# Altium integrated library RHS2000.IntLib: 7 symbols
Pins are listed as number, name and electrical type; pins without a type are passive.

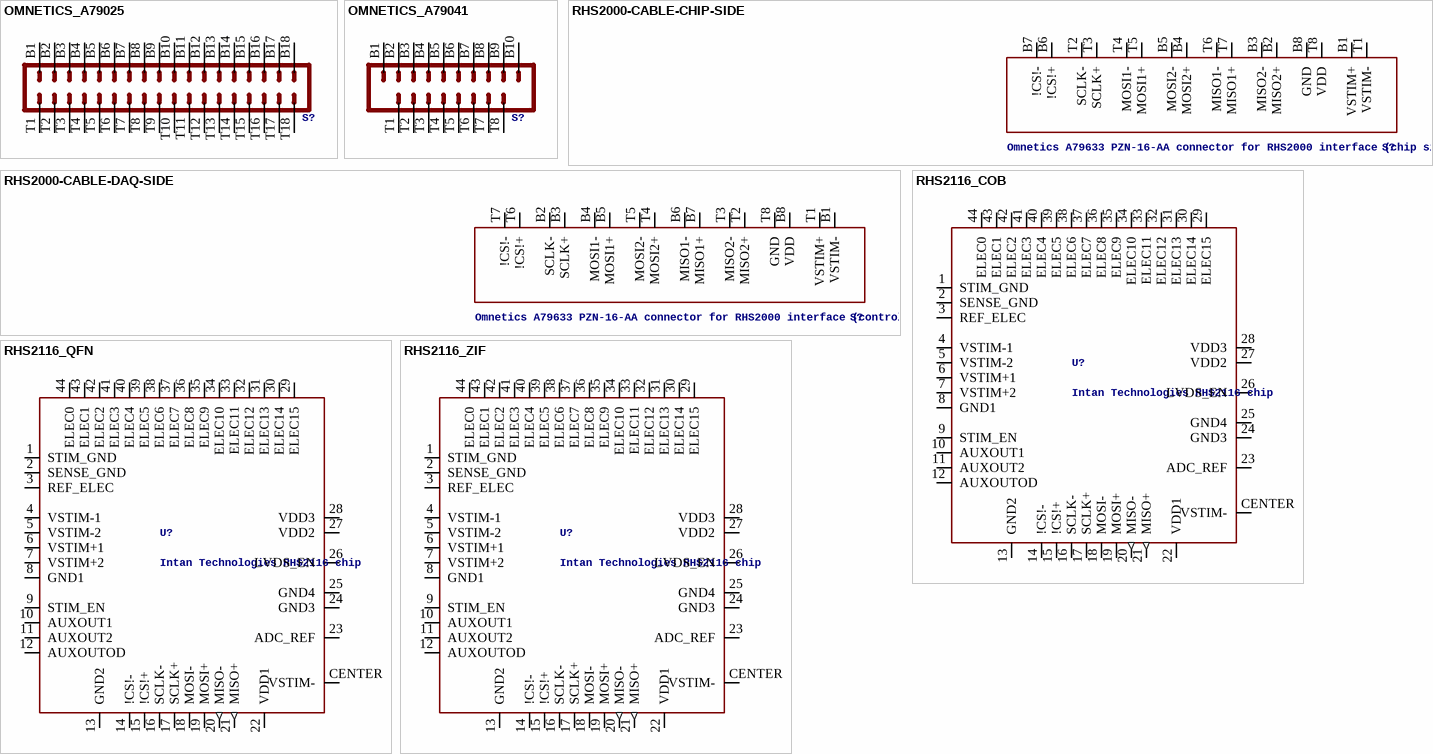
[diagram p0: symbols OMNETICS_A79025 to RHS2116_ZIF]

## OMNETICS_A79025
designator S?, comment Omnetics A79025 36-pin connector  (value not drawn)
footprint OMNETICS_A79025
pins: B1, B2, B3, B4, B5, B6, B7, B8, B9, B10, B11, B12, B13, B14, B15, B16, B17, B18, T1, T2, T3, T4, T5, T6, T7, T8, T9, T10, T11, T12, T13, T14, T15, T16, T17, T18

## OMNETICS_A79041
designator S?
footprint OMNETICS_A79041
pins: B1, B2, B3, B4, B5, B6, B7, B8, B9, B10, T1, T2, T3, T4, T5, T6, T7, T8

## RHS2000-CABLE-CHIP-SIDE
designator S?, comment Omnetics A79633 PZN-16-AA connector for RHS2000 interface (chip side)
footprint OMNETICS_PZN-16-AA
pins: B1 VSTIM+ (power), B2 MISO2+, B3 MISO2-, B4 MOSI2+, B5 MOSI2-, B6 !CS!+, B7 !CS!-, B8 GND (power), T1 VSTIM- (power), T2 SCLK-, T3 SCLK+, T4 MOSI1-, T5 MOSI1+, T6 MISO1-, T7 MISO1+, T8 VDD

## RHS2000-CABLE-DAQ-SIDE
designator S?, comment Omnetics A79633 PZN-16-AA connector for RHS2000 interface (controller side)
footprint OMNETICS_PZN-16-AA
pins: B1 VSTIM- (power), B2 SCLK-, B3 SCLK+, B4 MOSI1-, B5 MOSI1+, B6 MISO1-, B7 MISO1+, B8 VDD, T1 VSTIM+ (power), T2 MISO2+, T3 MISO2-, T4 MOSI2+, T5 MOSI2-, T6 !CS!+, T7 !CS!-, T8 GND (power)

## RHS2116_COB
designator U?, comment Intan Technologies RHS2116 chip
footprint RHS2000_44PIN_COB
pins: 1 STIM_GND (power), 2 SENSE_GND (power), 3 REF_ELEC, 4 VSTIM-1 (power), 5 VSTIM-2 (power), 6 VSTIM+1 (power), 7 VSTIM+2 (power), 8 GND1 (power), 9 STIM_EN, 10 AUXOUT1 (hiz), 11 AUXOUT2 (hiz), 12 AUXOUTOD (oc), 13 GND2 (power), 14 !CS!-, 15 !CS!+, 16 SCLK-, 17 SCLK+, 18 MOSI-, 19 MOSI+, 20 MISO- (out), 21 MISO+ (out), 22 VDD1 (power), 23 ADC_REF, 24 GND3 (power), 25 GND4 (power), 26 LVDS_EN, 27 VDD2 (power), 28 VDD3 (power), 29 ELEC15, 30 ELEC14, 31 ELEC13, 32 ELEC12, 33 ELEC11, 34 ELEC10, 35 ELEC9, 36 ELEC8, 37 ELEC7, 38 ELEC6, 39 ELEC5, 40 ELEC4, 41 ELEC3, 42 ELEC2, 43 ELEC1, 44 ELEC0, CENTER VSTIM- (power)

## RHS2116_QFN
designator U?, comment Intan Technologies RHS2116 chip
footprint QFN44_7_X_7
pins: 1 STIM_GND (power), 2 SENSE_GND (power), 3 REF_ELEC, 4 VSTIM-1 (power), 5 VSTIM-2 (power), 6 VSTIM+1 (power), 7 VSTIM+2 (power), 8 GND1 (power), 9 STIM_EN, 10 AUXOUT1 (hiz), 11 AUXOUT2 (hiz), 12 AUXOUTOD (oc), 13 GND2 (power), 14 !CS!-, 15 !CS!+, 16 SCLK-, 17 SCLK+, 18 MOSI-, 19 MOSI+, 20 MISO- (out), 21 MISO+ (out), 22 VDD1 (power), 23 ADC_REF, 24 GND3 (power), 25 GND4 (power), 26 LVDS_EN, 27 VDD2 (power), 28 VDD3 (power), 29 ELEC15, 30 ELEC14, 31 ELEC13, 32 ELEC12, 33 ELEC11, 34 ELEC10, 35 ELEC9, 36 ELEC8, 37 ELEC7, 38 ELEC6, 39 ELEC5, 40 ELEC4, 41 ELEC3, 42 ELEC2, 43 ELEC1, 44 ELEC0, CENTER VSTIM- (power)

## RHS2116_ZIF
designator U?, comment Intan Technologies RHS2116 chip
footprint ZIF_QFN44_7_X_7_MLF00044A
pins: 1 STIM_GND (power), 2 SENSE_GND (power), 3 REF_ELEC, 4 VSTIM-1 (power), 5 VSTIM-2 (power), 6 VSTIM+1 (power), 7 VSTIM+2 (power), 8 GND1 (power), 9 STIM_EN, 10 AUXOUT1 (hiz), 11 AUXOUT2 (hiz), 12 AUXOUTOD (oc), 13 GND2 (power), 14 !CS!-, 15 !CS!+, 16 SCLK-, 17 SCLK+, 18 MOSI-, 19 MOSI+, 20 MISO- (out), 21 MISO+ (out), 22 VDD1 (power), 23 ADC_REF, 24 GND3 (power), 25 GND4 (power), 26 LVDS_EN, 27 VDD2 (power), 28 VDD3 (power), 29 ELEC15, 30 ELEC14, 31 ELEC13, 32 ELEC12, 33 ELEC11, 34 ELEC10, 35 ELEC9, 36 ELEC8, 37 ELEC7, 38 ELEC6, 39 ELEC5, 40 ELEC4, 41 ELEC3, 42 ELEC2, 43 ELEC1, 44 ELEC0, CENTER VSTIM- (power)